# Altium footprint library PcbLib.PcbLib: 27 footprints (part 2 of 2)
Each footprint in its own frame and in the unit in brackets; x right, y up, seen from the top. Pads: shape width x height; smd on the part's side, far side on the other; paste and mask are expansions set on the pad; w line width, h text height; cw(c..) or ccw(c..) is an arc to the next point about the centre after c.
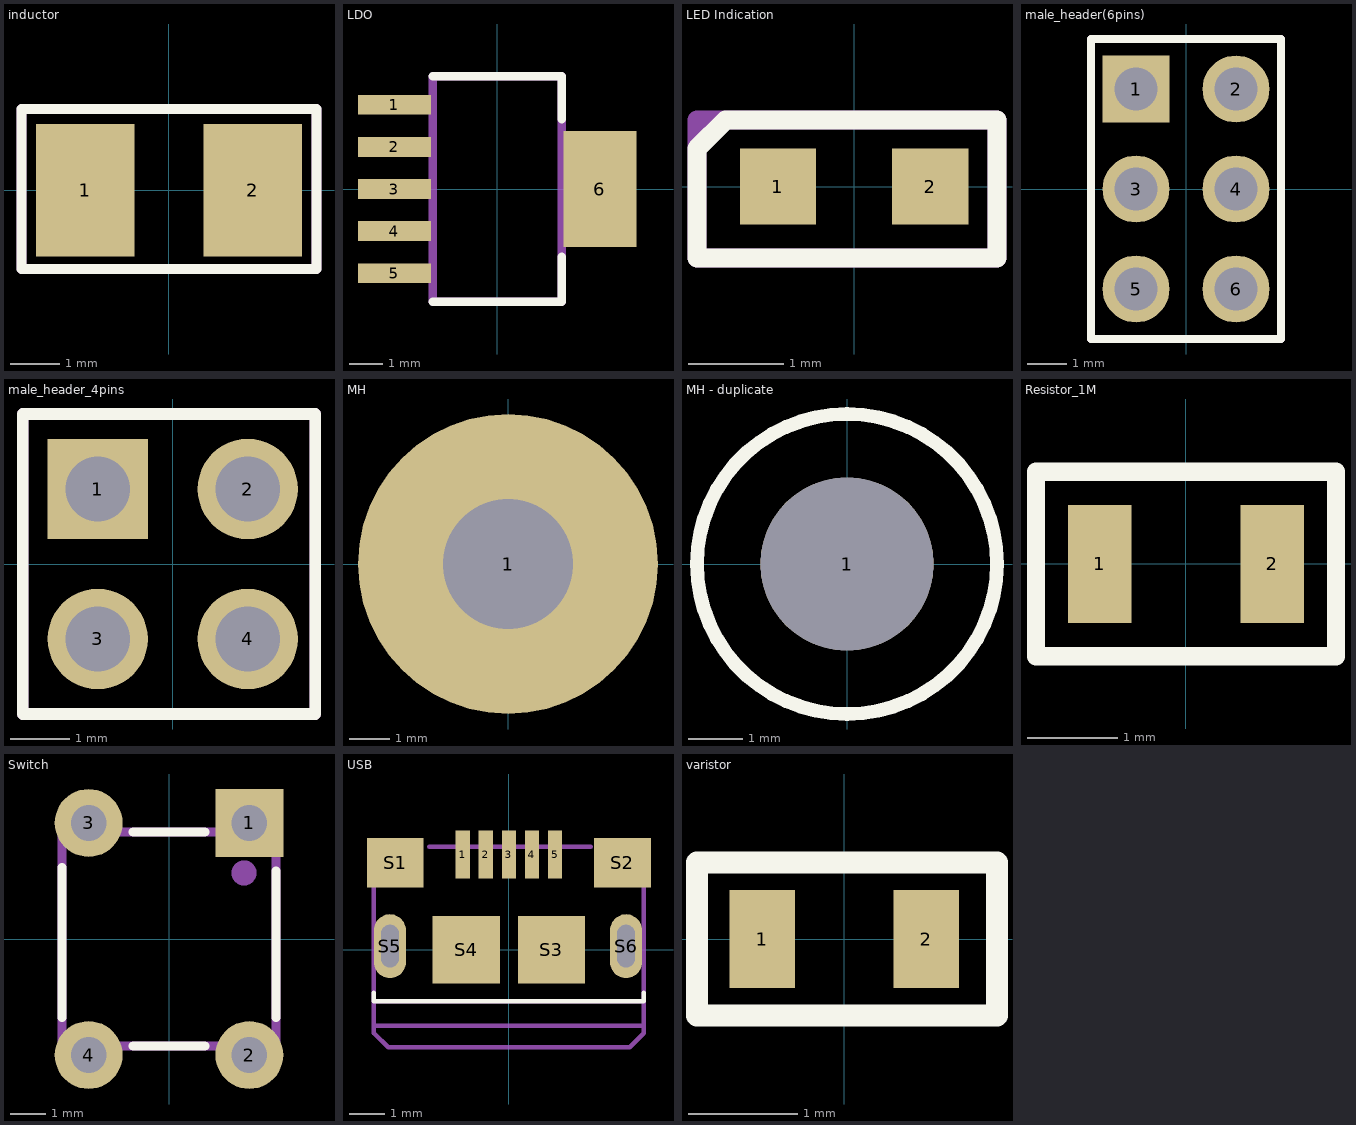
[diagram p1: the footprints below, top view; thin cyan lines are the x and y axes]

## inductor [mm]
pads (2):
  rect 2x2.7 smd: 1(-1.7,0) 2(1.7,0)
Top Overlay:
  lines w0.2: -3,-1.6 3,-1.6 3,1.65 -3,1.65 -3,-1.6
Mechanical 29:
  lines w0.2: -3,-1.6 -3,1.65 3,1.65 3,-1.6 -3,-1.6
3D body "L1210R2R2MDWIT.STEP": height 2.49, standoff -0.01, extent -1.6,-1.35 1.6,1.35

## LDO [mm]
pads (6):
  rect 2.2x0.6 smd: 1(-3.1,2.54) 2(-3.1,1.27) 3(-3.1,0) 4(-3.1,-1.27) 5(-3.1,-2.54)
  rect 2.2x3.5 smd: 6(3.1,0)
Top Overlay:
  lines w0.254: -1.95,-3.4 1.95,-3.4 1.95,-2.05 ; -1.95,3.4 1.95,3.4 1.95,2.1
Mechanical 29:
  lines w0.254: -1.95,-3.4 -1.95,3.4 1.95,3.4 1.95,-3.4 -1.95,-3.4
3D body "User Library-TPS73701DCQ.step": height 1.71, standoff -0.09, extent -3.83,-3.3 3.43,3.25

## LED Indication [mm]
pads (2):
  rect 0.8x0.8 smd: 1(-0.8,0) 2(0.8,0)
Top Overlay:
  lines w0.2: -1.65,-0.75 1.5,-0.75 1.5,0.7 -1.35,0.7 -1.65,0.4 -1.65,-0.75
Mechanical 29:
  lines w0.2: -1.65,-0.75 1.5,-0.75 1.5,0.7 -1.65,0.7 -1.65,-0.75
3D body "ALSRobot-LED 0805.step": height 1.1, standoff 0, extent -1.01,-0.65 1.01,0.6

## male_header(6pins) [mm]
pads (6):
  rect 1.7x1.7 hole 1.1: 1(-1.27,2.54)
  round 1.7 hole 1.1: 2(1.27,2.54) 3(-1.27,0) 4(1.27,0) 5(-1.27,-2.54) 6(1.27,-2.54)
Top Overlay:
  lines w0.2: -2.413,-3.81 -2.413,3.81 2.413,3.81 2.413,-3.81 -2.413,-3.81
Mechanical 29:
  circle w0.508: c-1.524,2.794 r0.203
  lines w0.198: -2.413,-3.81 -2.413,3.81 2.413,3.81 2.413,-3.81 -2.413,-3.81
3D body "67997-106HLF--3DModel-STEP-533217.STEP": height 8.19, standoff -3.24, extent -2.413,-3.81 2.413,3.81

## male_header_4pins [mm]
pads (4):
  rect 1.7x1.7 hole 1.1: 1(-1.27,1.27)
  round 1.7 hole 1.1: 2(1.27,1.27) 3(-1.27,-1.27) 4(1.27,-1.27)
Top Overlay:
  lines w0.2: -2.54,-2.54 -2.54,2.54 2.413,2.54 2.413,-2.54 -2.54,-2.54
Mechanical 29:
  circle w0.508: c-1.524,1.524 r0.203
  lines w0.198: -2.54,-2.54 2.413,-2.54 2.413,2.54 -2.54,2.54 -2.54,-2.54
3D body "68602-204HLF--3DModel-STEP-533217.STEP": height 8.19, standoff -4, extent -2.567,-2.413 2.413,2.413

## MH [mm]
pads (1):
  round 7.4 hole 3.2: 1(0,0)

## MH - duplicate [mm]
pads (1):
  round 3.2 hole 3.2: 1(0,0)
Top Overlay:
  circle w0.254: c0,0 r2.774

## Resistor_1M [mm]
pads (2):
  rect 0.7x1.3 smd: 1(-0.95,0) 2(0.95,0)
Top Overlay:
  lines w0.2: -1.651,-1.016 -1.651,1.016 1.651,1.016 1.651,-1.016 -1.651,-1.016
Mechanical 29:
  lines w0.178: -1.651,-1.016 1.651,-1.016 1.651,1.016 -1.651,1.016 -1.651,-1.016
3D body "RESC2012X60N.step": height 0.58, standoff -0.02, extent -1,-0.625 1,0.625

## Switch [mm]
pads (4):
  rect 1.9x1.9 hole 1: 1(2.25,3.25)
  round 1.9 hole 1: 2(2.25,-3.25) 3(-2.25,3.25) 4(-2.25,-3.25)
Top Overlay:
  lines w0.254: -3,-2.2 -3,2 ; -1,-3 1,-3 ; -1,3 1,3 ; 3,-2.2 3,1.9
Mechanical 29:
  circle w0.5: c2.1,1.85 r0.1
  lines w0.254: -3,-3 -3,3 3,3 3,-3 -3,-3
3D body "User Library-FSM4JLH(1825910-5).step": height 5, standoff -3.51, extent -2.995,-3.899 2.995,3.9

## USB [mm]
height 2.55
pads (11):
  rect 0.4x1.35 smd: 1(-1.3,2.675) 2(-0.65,2.675) 3(0,2.675) 4(0.65,2.675) 5(1.3,2.675)
  rect 1.6x1.4 smd: S1(-3.2,2.45) S2(3.2,2.45)
  rect 1.9x1.9 smd: S3(1.2,0) S4(-1.2,0)
  oval 0.9x1.8 hole 0.5 slot 1.2 at 90 deg: S5(-3.35,0.1) S6(3.3,0.1)
Top Overlay:
  lines w0.127: -3.8,-1.22 -3.8,-1.45 3.8,-1.45 3.8,-1.22
Mechanical 13:
  lines w0.127: -3.8,-2.15 -3.8,-2.1
Mechanical 29:
  lines w0.127: -3.8,-2.15 3.8,-2.15 ; -3.8,-1.45 3.8,-1.45 ; -3.8,2.9 -3.8,-2.35 -3.4,-2.75 3.4,-2.75 3.8,-2.35 3.8,2.9 ; -2.25,2.9 2.3,2.9
3D body "step_temp.STEP": height 2.85, standoff -0.75, extent -3.91,-2.55 3.95,3.16

## varistor [mm]
pads (2):
  rect 0.6x0.9 smd: 1(-0.75,0) 2(0.75,0)
Top Overlay:
  lines w0.2: -1.35,-0.7 1.4,-0.7 1.4,0.7 -1.35,0.7 -1.35,-0.7
3D body "CG0603MLC-05E--3DModel-STEP-1.STEP": height 0.55, standoff 0, extent -0.8,-0.4 0.8,0.4